# EAGLE library part Q_ACS714 (library MRDT-2015-PowerBoard)
Sketch variant has increased clearance for traces.
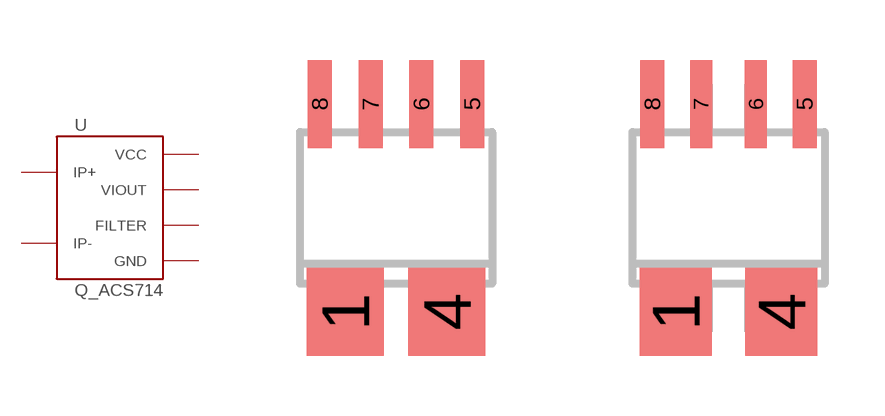
[diagram p3: symbol with the pads of SOIC8_ACS711; footprints SOIC8_ACS711, SOIC8_ACS711_SKETCH]

Designator prefix -

## Q_ACS714  [SOIC8_ACS711]
1  IP+
4  IP-
5  GND
6  FILTER
7  VIOUT
8  VCC

## Q_ACS714_SKETCH  [SOIC8_ACS711_SKETCH]
Pads as for SOIC8_ACS711

## Footprint SOIC8_ACS711 (pad centres in mm)
Small Outline IC
smd 1.92 x 2.2: 1 -1.27,-2.6; 4 1.27,-2.6
smd 0.6 x 2.2: 5 1.905,2.6; 6 0.635,2.6; 7 -0.635,2.6; 8 -1.905,2.6

## Footprint SOIC8_ACS711_SKETCH (pad centres in mm)
smd 1.8 x 2.2: 1 -1.321,-2.6; 4 1.321,-2.6
smd 0.6 x 2.2: 5 1.905,2.6; 8 -1.905,2.6
smd 0.55 x 2.2: 6 0.686,2.6; 7 -0.686,2.6